# Altium footprint library CeleronLib_Connect.PcbLib: 219 footprints (part 7 of 14)
Each footprint in its own frame and in the unit in brackets; x right, y up, seen from the top. Pads: shape width x height; smd on the part's side, far side on the other; paste and mask are expansions set on the pad; w line width, h text height; cw(c..) or ccw(c..) is an arc to the next point about the centre after c.
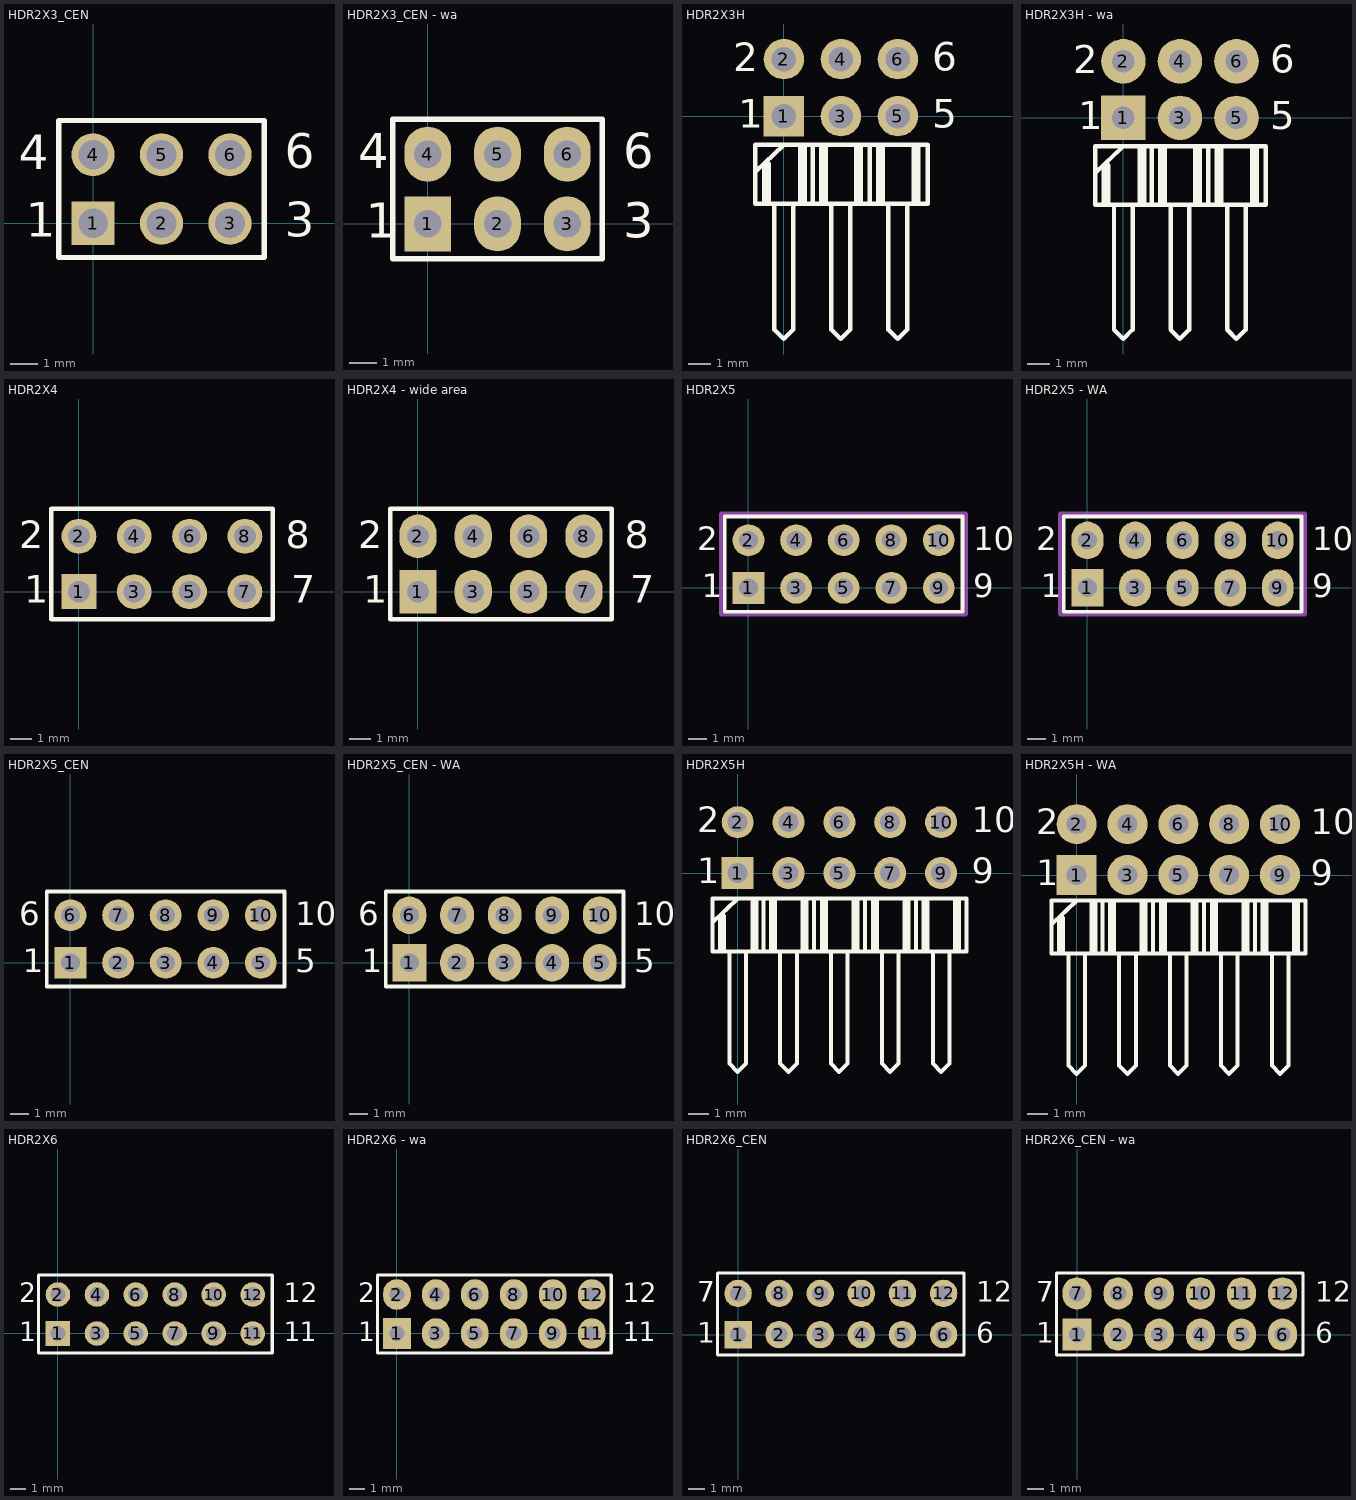
[diagram p6: the footprints below, top view; thin cyan lines are the x and y axes]

## HDR2X3_CEN [mm] "Connector; Header; 3x2 Position"
height 8.54
pads (6):
  rect 1.6x1.6 hole 1.1: 1(0,0)
  round 1.6 hole 1.1: 2(2.54,0) 3(5.08,0) 4(0,2.54) 5(2.54,2.54) 6(5.08,2.54)
Top Overlay:
  lines w0.2: -1.27,-1.27 6.35,-1.27 6.35,3.81 -1.27,3.81 -1.27,-1.27
  text "6" at 7.112,2.032 h1.27
  text "3" at 7.112,-0.508 h1.27
  text "1" at -2.5,-0.5 h1.27
  text "4" at -2.75,2 h1.27
3D body: height 8.2, standoff -3, extent -1.16,-1.2 6.46,1.298
3D body: height 8.2, standoff -3, extent -1.16,1.34 6.46,3.838

## HDR2X3_CEN - wa [mm] "Connector; Header; 3x2 Position"
height 8.54
pads (6):
  rect 1.7x2 hole 1: 1(0,0)
  oval 1.7x2 hole 1: 2(2.54,0) 3(5.08,0) 4(0,2.54) 5(2.54,2.54) 6(5.08,2.54)
Top Overlay:
  lines w0.2: -1.27,-1.27 6.35,-1.27 6.35,3.81 -1.27,3.81 -1.27,-1.27
  text "6" at 7.112,2.032 h1.27
  text "3" at 7.112,-0.508 h1.27
  text "1" at -2.25,-0.5 h1.27
  text "4" at -2.54,2.032 h1.27
3D body: height 8.2, standoff -3, extent -1.16,1.34 6.46,3.838
3D body: height 8.2, standoff -3, extent -1.16,-1.2 6.46,1.298

## HDR2X3H [mm] "Connector; Header; 3x2 Position; Right Angle"
height 7.5
pads (6):
  rect 1.8x1.8 hole 1.1: 1(0,0)
  round 1.8 hole 1.1: 2(0,2.54) 3(2.54,0) 4(2.54,2.54) 5(5.08,0) 6(5.08,2.54)
Top Overlay:
  lines w0.2: -1.249,-2.461 -0.04,-1.31 ; -0.42,-3.92 -0.42,-9.52 -0.01,-9.93 0.413,-9.507 0.413,-3.92 ; 1.28,-3.87 1.28,-1.29 ; 2.12,-3.92 2.12,-9.52 2.53,-9.93 2.953,-9.507 2.953,-3.91 ; 3.82,-3.86 3.82,-1.28 ; 4.66,-3.91 4.66,-9.52 5.07,-9.93 5.493,-9.507 5.493,-3.91 ; -1.27,-3.91 6.4,-3.91 6.4,-1.27 -1.27,-1.27 -1.27,-3.91
  lines w0.4: -0.78,-3.81 -0.78,-2.16 ; 0.83,-3.81 0.83,-1.37 ; 1.76,-3.81 1.76,-1.37 ; 3.33,-3.81 3.33,-1.37 ; 4.3,-3.81 4.3,-1.37 ; 5.89,-3.81 5.89,-1.37
  text "6" at 6.604,2.032 h1.27
  text "5" at 6.604,-0.508 h1.27
  text "1" at -2.032,-0.508 h1.27
  text "2" at -2.25,2 h1.27
3D body: height 5.04, standoff -2.96, extent -1.26,-10 6.36,2.88

## HDR2X3H - wa [mm] "Connector; Header; 3x2 Position; Right Angle"
height 7.5
pads (6):
  rect 2x2 hole 1: 1(0,0)
  round 2 hole 1: 2(0,2.54) 3(2.54,0) 4(2.54,2.54) 5(5.08,0) 6(5.08,2.54)
Top Overlay:
  lines w0.2: -1.249,-2.461 -0.04,-1.31 ; -0.42,-3.92 -0.42,-9.52 -0.01,-9.93 0.413,-9.507 0.413,-3.92 ; 1.28,-3.87 1.28,-1.29 ; 2.12,-3.92 2.12,-9.52 2.53,-9.93 2.953,-9.507 2.953,-3.91 ; 3.82,-3.86 3.82,-1.28 ; 4.66,-3.91 4.66,-9.52 5.07,-9.93 5.493,-9.507 5.493,-3.91 ; -1.27,-3.91 -1.27,-1.27 6.4,-1.27 6.4,-3.91 -1.27,-3.91
  lines w0.4: -0.78,-3.81 -0.78,-2.16 ; 0.83,-3.81 0.83,-1.37 ; 1.76,-3.81 1.76,-1.37 ; 3.33,-3.81 3.33,-1.37 ; 4.3,-3.81 4.3,-1.37 ; 5.89,-3.81 5.89,-1.37
  text "2" at -2.25,2 h1.27
  text "1" at -2.032,-0.508 h1.27
  text "5" at 6.604,-0.508 h1.27
  text "6" at 6.604,2.032 h1.27
3D body: height 5.04, standoff -2.96, extent -1.26,-10 6.36,2.88

## HDR2X4 [mm] "Connector; Header; 4x2 Position"
height 8.54
pads (8):
  rect 1.6x1.6 hole 1: 1(0,0)
  round 1.6 hole 1: 2(0,2.54) 3(2.54,0) 4(2.54,2.54) 5(5.08,0) 6(5.08,2.54) 7(7.62,0) 8(7.62,2.54)
Top Overlay:
  lines w0.2: -1.27,-1.27 -1.27,3.81 8.89,3.81 8.89,-1.27 -1.27,-1.27
  text "8" at 9.5,2 h1.27
  text "7" at 9.75,-0.5 h1.27
  text "1" at -2.5,-0.5 h1.27
  text "2" at -2.75,2 h1.27
3D body: height 9.55, standoff -2.95, extent -1.27,-1.27 8.89,3.81

## HDR2X4 - wide area [mm] "Connector; Header; 4x2 Position"
height 8.54
pads (8):
  rect 1.7x2 hole 1: 1(0,0)
  oval 1.7x2 hole 1: 2(0,2.54) 3(2.54,0) 4(2.54,2.54) 5(5.08,0) 6(5.08,2.54) 7(7.62,0) 8(7.62,2.54)
Top Overlay:
  lines w0.2: -1.27,-1.27 8.89,-1.27 8.89,3.81 -1.27,3.81 -1.27,-1.27
  text "2" at -2.75,2 h1.27
  text "1" at -2.5,-0.5 h1.27
  text "7" at 9.75,-0.5 h1.27
  text "8" at 9.5,2 h1.27
3D body: height 9.55, standoff -2.95, extent -1.27,-1.27 8.89,3.81

## HDR2X5 [mm] "Разъем двухрядный, шаг 2,54 мм."
height 8.54
pads (10):
  rect 1.7x1.7 hole 1: 1(0,0)
  round 1.7 hole 1: 2(0,2.54) 3(2.54,0) 4(2.54,2.54) 5(5.08,0) 6(5.08,2.54) 7(7.62,0) 8(7.62,2.54) 9(10.16,0) 10(10.16,2.54)
Top Overlay:
  lines w0.2: -1.27,-1.27 11.43,-1.27 11.43,3.81 -1.27,3.81 -1.27,-1.27
  text "10" at 12,2 h1.27
  text "9" at 12,-0.5 h1.27
  text "1" at -2.5,-0.5 h1.27
  text "2" at -2.75,2 h1.27
Top Courtyard:
  lines w0.254: -1.45,3.95 -1.45,-1.4 11.6,-1.4 11.6,3.95 -1.4,3.95
3D body: height 9.55, standoff -2.95, extent -1.27,-1.27 11.43,3.81

## HDR2X5 - WA [mm] "Разъем двухрядный, шаг 2,54 мм."
height 8.54
pads (10):
  rect 1.7x2 hole 1: 1(0,0)
  oval 1.7x2 hole 1: 2(0,2.54) 3(2.54,0) 4(2.54,2.54) 5(5.08,0) 6(5.08,2.54) 7(7.62,0) 8(7.62,2.54) 9(10.16,0) 10(10.16,2.54)
Top Overlay:
  lines w0.2: -1.27,-1.27 11.43,-1.27 11.43,3.81 -1.27,3.81 -1.27,-1.27
  text "10" at 12,2 h1.27
  text "9" at 12,-0.5 h1.27
  text "1" at -2.5,-0.5 h1.27
  text "2" at -2.75,2 h1.27
Top Courtyard:
  lines w0.254: -1.45,3.95 -1.45,-1.4 11.6,-1.4 11.6,3.95 -1.4,3.95
3D body: height 9.55, standoff -2.95, extent -1.27,-1.27 11.43,3.81

## HDR2X5_CEN [mm] "Разъем двухрядный, шаг 2,54 мм."
height 8.54
pads (10):
  rect 1.7x1.7 hole 1: 1(0,0)
  round 1.7 hole 1: 2(2.54,0) 3(5.08,0) 4(7.62,0) 5(10.16,0) 6(0,2.54) 7(2.54,2.54) 8(5.08,2.54) 9(7.62,2.54) 10(10.16,2.54)
Top Overlay:
  lines w0.2: -1.27,-1.27 -1.27,3.81 11.43,3.81 11.43,-1.27 -1.27,-1.27
  text "6" at -2.75,2 h1.27
  text "10" at 12,2 h1.27
  text "5" at 12,-0.5 h1.27
  text "1" at -2.54,-0.508 h1.27
3D body: height 9.55, standoff -2.95, extent -1.27,-1.27 11.43,3.81

## HDR2X5_CEN - WA [mm] "Разъем двухрядный, шаг 2,54 мм."
height 8.54
pads (10):
  rect 1.8x2 hole 1: 1(0,0)
  oval 1.8x2 hole 1: 2(2.54,0) 3(5.08,0) 4(7.62,0) 5(10.16,0) 6(0,2.54) 7(2.54,2.54) 8(5.08,2.54) 9(7.62,2.54) 10(10.16,2.54)
Top Overlay:
  lines w0.2: -1.27,-1.27 11.43,-1.27 11.43,3.81 -1.27,3.81 -1.27,-1.27
  text "1" at -2.54,-0.508 h1.27
  text "5" at 12,-0.5 h1.27
  text "10" at 12,2 h1.27
  text "6" at -2.75,2 h1.27
3D body: height 9.55, standoff -2.95, extent -1.27,-1.27 11.43,3.81

## HDR2X5H [mm] "Connector; Header; 5x2 Position; Right Angle"
height 7.5
pads (10):
  rect 1.6x1.6 hole 1: 1(0,0)
  round 1.6 hole 1: 2(0,2.54) 3(2.54,0) 4(2.54,2.54) 5(5.08,0) 6(5.08,2.54) 7(7.62,0) 8(7.62,2.54) 9(10.16,0) 10(10.16,2.54)
Top Overlay:
  lines w0.2: -1.249,-2.461 -0.04,-1.31 ; -0.42,-3.92 -0.42,-9.52 -0.01,-9.93 0.413,-9.507 0.413,-3.92 ; 1.28,-3.87 1.28,-1.29 ; 2.12,-3.92 2.12,-9.52 2.53,-9.93 2.953,-9.507 2.953,-3.91 ; 3.82,-3.86 3.82,-1.28 ; 4.66,-3.91 4.66,-9.52 5.07,-9.93 5.493,-9.507 5.493,-3.91 ; 6.36,-3.86 6.36,-1.28 ; 7.2,-3.91 7.2,-9.52 7.61,-9.93 8.033,-9.507 8.033,-3.91 ; 8.9,-3.87 8.9,-1.29 ; 9.75,-3.91 9.75,-9.52 10.16,-9.93 10.583,-9.507 10.583,-3.91 ; -1.27,-3.91 -1.27,-1.27 11.43,-1.27 11.43,-3.91 -1.27,-3.91
  lines w0.4: -0.78,-3.81 -0.78,-2.16 ; 0.83,-3.81 0.83,-1.37 ; 1.76,-3.81 1.76,-1.37 ; 3.33,-3.81 3.33,-1.37 ; 4.3,-3.81 4.3,-1.37 ; 5.89,-3.81 5.89,-1.37 ; 6.85,-3.81 6.85,-1.37 ; 8.43,-3.81 8.43,-1.37 ; 9.39,-3.81 9.39,-1.37 ; 10.95,-3.81 10.95,-1.37
  text "2" at -2.032,2.032 h1.27
  text "1" at -2.032,-0.508 h1.27
  text "9" at 11.684,-0.508 h1.27
  text "10" at 11.684,2.032 h1.27
3D body: height 5.1, standoff -2.9, extent -1.3,-10.05 11.4,2.83

## HDR2X5H - WA [mm] "Connector; Header; 5x2 Position; Right Angle"
height 7.5
pads (10):
  rect 2x2 hole 1: 1(0,0)
  round 2 hole 1: 2(0,2.54) 3(2.54,0) 4(2.54,2.54) 5(5.08,0) 6(5.08,2.54) 7(7.62,0) 8(7.62,2.54) 9(10.16,0) 10(10.16,2.54)
Top Overlay:
  lines w0.2: -1.249,-2.461 -0.04,-1.31 ; -0.42,-3.92 -0.42,-9.52 -0.01,-9.93 0.413,-9.507 0.413,-3.92 ; 1.28,-3.87 1.28,-1.29 ; 2.12,-3.92 2.12,-9.52 2.53,-9.93 2.953,-9.507 2.953,-3.91 ; 3.82,-3.86 3.82,-1.28 ; 4.66,-3.91 4.66,-9.52 5.07,-9.93 5.493,-9.507 5.493,-3.91 ; 6.36,-3.86 6.36,-1.28 ; 7.2,-3.91 7.2,-9.52 7.61,-9.93 8.033,-9.507 8.033,-3.91 ; 8.9,-3.87 8.9,-1.29 ; 9.75,-3.91 9.75,-9.52 10.16,-9.93 10.583,-9.507 10.583,-3.91 ; -1.27,-3.91 11.43,-3.91 11.43,-1.27 -1.27,-1.27 -1.27,-3.91
  lines w0.4: -0.78,-3.81 -0.78,-2.16 ; 0.83,-3.81 0.83,-1.37 ; 1.76,-3.81 1.76,-1.37 ; 3.33,-3.81 3.33,-1.37 ; 4.3,-3.81 4.3,-1.37 ; 5.89,-3.81 5.89,-1.37 ; 6.85,-3.81 6.85,-1.37 ; 8.43,-3.81 8.43,-1.37 ; 9.39,-3.81 9.39,-1.37 ; 10.95,-3.81 10.95,-1.37
  text "2" at -2.032,2.032 h1.27
  text "1" at -2.032,-0.508 h1.27
  text "9" at 11.684,-0.508 h1.27
  text "10" at 11.684,2.032 h1.27
3D body: height 5.1, standoff -2.9, extent -1.3,-10.05 11.4,2.83

## HDR2X6 [mm] "Connector; Header; 6x2 Position"
height 8.54
pads (12):
  rect 1.6x1.6 hole 1: 1(0,0)
  round 1.6 hole 1: 2(0,2.54) 3(2.54,0) 4(2.54,2.54) 5(5.08,0) 6(5.08,2.54) 7(7.62,0) 8(7.62,2.54) 9(10.16,0) 10(10.16,2.54) 11(12.7,0) 12(12.7,2.54)
Top Overlay:
  lines w0.2: -1.27,-1.27 13.97,-1.27 13.97,3.81 -1.27,3.81 -1.27,-1.27
  text "12" at 14.732,2.032 h1.27
  text "1" at 15.748,-0.508 h1.27
  text "1" at 14.732,-0.508 h1.27
  text "1" at -2.54,-0.508 h1.27
  text "2" at -2.54,2.032 h1.27
3D body: height 9.55, standoff -2.95, extent -1.27,-1.27 8.89,3.81
3D body: height 9.55, standoff -2.95, extent 3.81,-1.27 13.97,3.81

## HDR2X6 - wa [mm] "Connector; Header; 6x2 Position"
height 8.54
pads (12):
  rect 1.8x2 hole 1: 1(0,0)
  oval 1.8x2 hole 1: 2(0,2.54) 3(2.54,0) 4(2.54,2.54) 5(5.08,0) 6(5.08,2.54) 7(7.62,0) 8(7.62,2.54) 9(10.16,0) 10(10.16,2.54) 11(12.7,0) 12(12.7,2.54)
Top Overlay:
  lines w0.2: -1.27,-1.27 13.97,-1.27 13.97,3.81 -1.27,3.81 -1.27,-1.27
  text "12" at 14.732,2.032 h1.27
  text "1" at 15.748,-0.508 h1.27
  text "1" at 14.732,-0.508 h1.27
  text "1" at -2.54,-0.508 h1.27
  text "2" at -2.54,2.032 h1.27
3D body: height 9.55, standoff -2.95, extent 3.81,-1.27 13.97,3.81
3D body: height 9.55, standoff -2.95, extent -1.27,-1.27 8.89,3.81

## HDR2X6_CEN [mm] "Connector; Header; 6x2 Position"
height 8.54
pads (12):
  rect 1.7x1.7 hole 1: 1(0,0)
  round 1.7 hole 1: 2(2.54,0) 3(5.08,0) 4(7.62,0) 5(10.16,0) 6(12.7,0) 7(0,2.54) 8(2.54,2.54) 9(5.08,2.54) 10(7.62,2.54) 11(10.16,2.54) 12(12.7,2.54)
Top Overlay:
  lines w0.2: -1.27,-1.27 -1.27,3.81 13.97,3.81 13.97,-1.27 -1.27,-1.27
  text "7" at -2.54,2.032 h1.27
  text "1" at -2.54,-0.508 h1.27
  text "6" at 14.732,-0.508 h1.27
  text "12" at 14.732,2.032 h1.27
3D body: height 9.55, standoff -2.95, extent 3.81,-1.27 13.97,3.81
3D body: height 9.55, standoff -2.95, extent -1.27,-1.27 8.89,3.81

## HDR2X6_CEN - wa [mm] "Connector; Header; 6x2 Position"
height 8.54
pads (12):
  rect 1.8x2 hole 1: 1(0,0)
  oval 1.8x2 hole 1: 2(2.54,0) 3(5.08,0) 4(7.62,0) 5(10.16,0) 6(12.7,0) 7(0,2.54) 8(2.54,2.54) 9(5.08,2.54) 10(7.62,2.54) 11(10.16,2.54) 12(12.7,2.54)
Top Overlay:
  lines w0.2: -1.27,-1.27 -1.27,3.81 13.97,3.81 13.97,-1.27 -1.27,-1.27
  text "7" at -2.54,2.032 h1.27
  text "1" at -2.54,-0.508 h1.27
  text "6" at 14.732,-0.508 h1.27
  text "12" at 14.732,2.032 h1.27
3D body: height 9.55, standoff -2.95, extent -1.27,-1.27 8.89,3.81
3D body: height 9.55, standoff -2.95, extent 3.81,-1.27 13.97,3.81